# Altium integrated library Diods.IntLib: 4 symbols
Pins are listed as number, name and electrical type; pins without a type are passive.

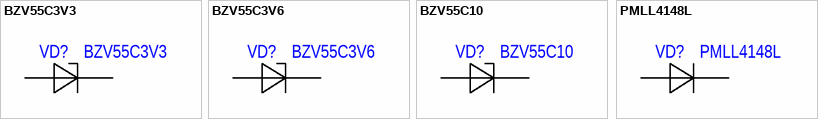
[diagram p0: symbols BZV55C3V3 to PMLL4148L]

## BZV55C3V3
designator VD?
Manufacturer: Nexperia USA Inc.; PartNumber: BZV55C3V3
footprint SOD80
pins: 1, 2

## BZV55C3V6
designator VD?
Manufacturer: Nexperia USA Inc.; PartNumber: BZV55C3V6
footprint SOD80
pins: 1, 2

## BZV55C10
designator VD?
Manufacturer: Nexperia USA Inc.; PartNumber: BZV55C10
footprint SOD80
pins: 1, 2

## PMLL4148L
designator VD?
Manufacturer: Nexperia USA Inc.; PartNumber: PMLL4148L
footprint SOD80
pins: 1, 2